# Altium footprint library SK6812MINI-E.PcbLib: 1 footprints
Each footprint in its own frame and in the unit in brackets; x right, y up, seen from the top. Pads: shape width x height; smd on the part's side, far side on the other; paste and mask are expansions set on the pad; w line width, h text height; cw(c..) or ccw(c..) is an arc to the next point about the centre after c.
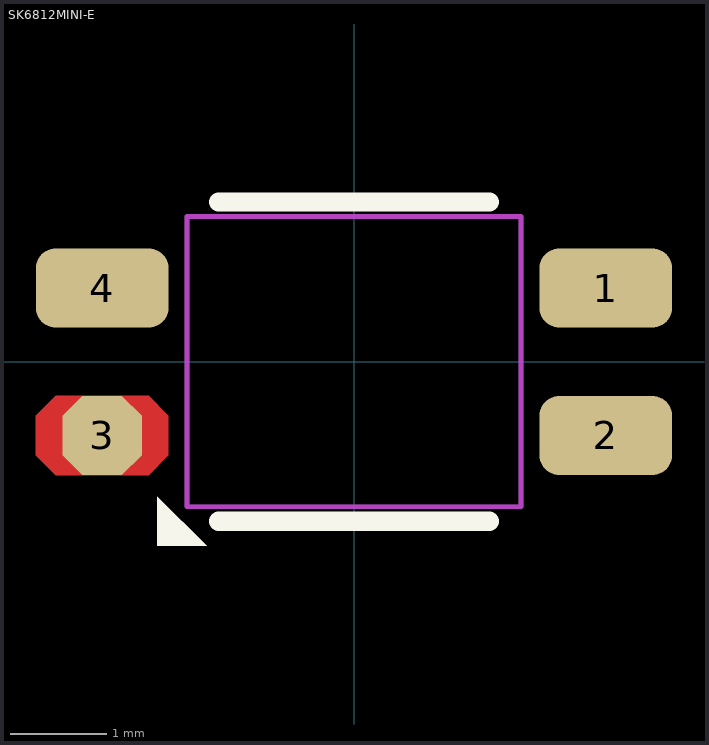
[diagram p0: the footprint, top view; thin cyan lines are the x and y axes]

## SK6812MINI-E [mil]
pads (4):
  rrect50% 54x32.28 smd: 1(102.53,30) 2(102.53,-30) 4(-102.53,30)
  oct 32.28x32.28 smd: 3(-102.53,-30)
Top Layer:
  region: -83.6,-13.86 -75.53,-21.93 -75.53,-38.07 -83.6,-46.14 -121.46,-46.14 -129.53,-38.07 -129.53,-21.93 -121.46,-13.86
Top Overlay:
  region: -80,-55 -60,-75 -80,-75
  lines w7.87: -55,-65 55,-65 ; -55,65 55,65
Keep-Out Layer:
  lines w1.97: -68,-59.06 68,-59.06 68,59.06 -68,59.06 -68,-59.06
Mechanical 1:
  lines w1.97: -68,-59.06 68,-59.06 68,59.06 -68,59.06 -68,-59.06
  text "CUT / OUT" at -50,-50 h30
3D body "LED_SK6812MINI-E.step": height 37.8, standoff -32.28, extent -115.75,-55.24 115.75,55